# EAGLE library part ARDUCAM_OV2640 (library circuit_tree)
IC
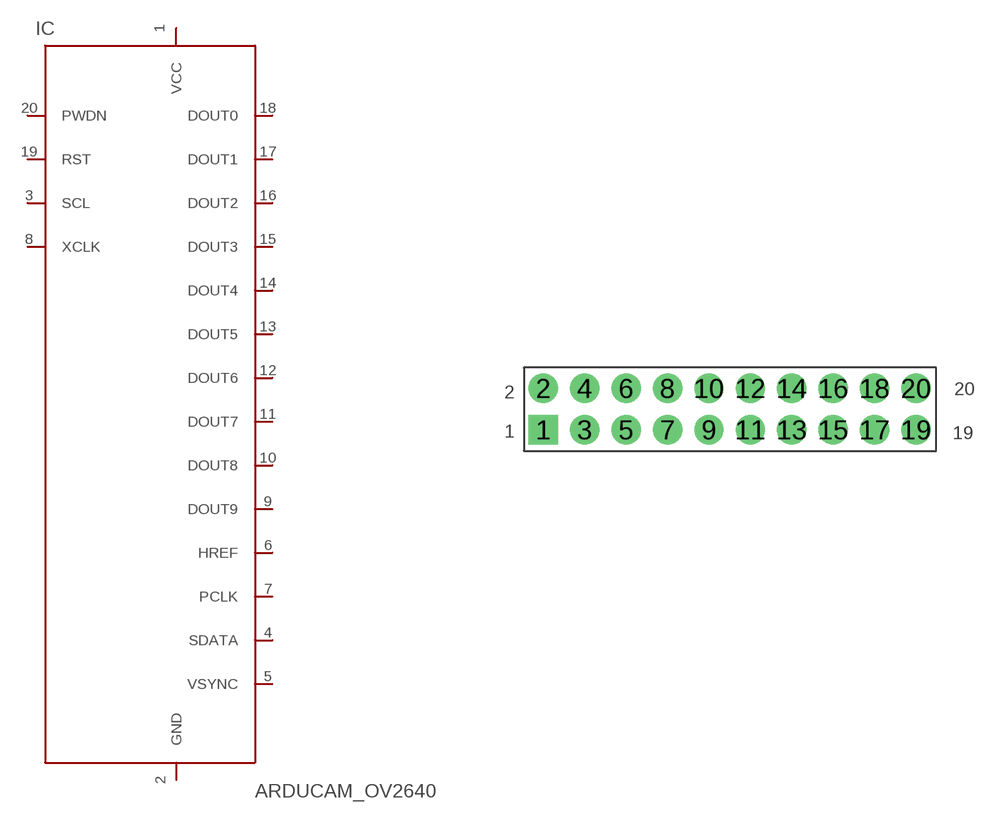
[diagram p2: symbol with the pads of ARDUCAM; footprint ARDUCAM]

Designator prefix IC

## ARDUCAM_OV2640  [ARDUCAM]
1  VCC  pas
2  GND  pas
3  SCL  pas
4  SDATA  pas
5  VSYNC  pas
6  HREF  pas
7  PCLK  pas
8  XCLK  pas
9  DOUT9  pas
10  DOUT8  pas
11  DOUT7  pas
12  DOUT6  pas
13  DOUT5  pas
14  DOUT4  pas
15  DOUT3  pas
16  DOUT2  pas
17  DOUT1  pas
18  DOUT0  pas
19  RST  pas
20  PWDN  pas

## Footprint ARDUCAM (pad centres in mm)
drill 1 pad 1.8 square: 1 0,0
drill 1 pad 1.8: 2 0,2.54; 3 2.54,0; 4 2.54,2.54; 5 5.08,0; 6 5.08,2.54; 7 7.62,0; 8 7.62,2.54; 9 10.16,0; 10 10.16,2.54; 11 12.7,0; 12 12.7,2.54; 13 15.24,0; 14 15.24,2.54; 15 17.78,0; 16 17.78,2.54; 17 20.32,0; 18 20.32,2.54; 19 22.86,0; 20 22.86,2.54